# Altium footprint library Res and Cap.PcbLib: 7 footprints
Each footprint in its own frame and in the unit in brackets; x right, y up, seen from the top. Pads: shape width x height; smd on the part's side, far side on the other; paste and mask are expansions set on the pad; w line width, h text height; cw(c..) or ccw(c..) is an arc to the next point about the centre after c.
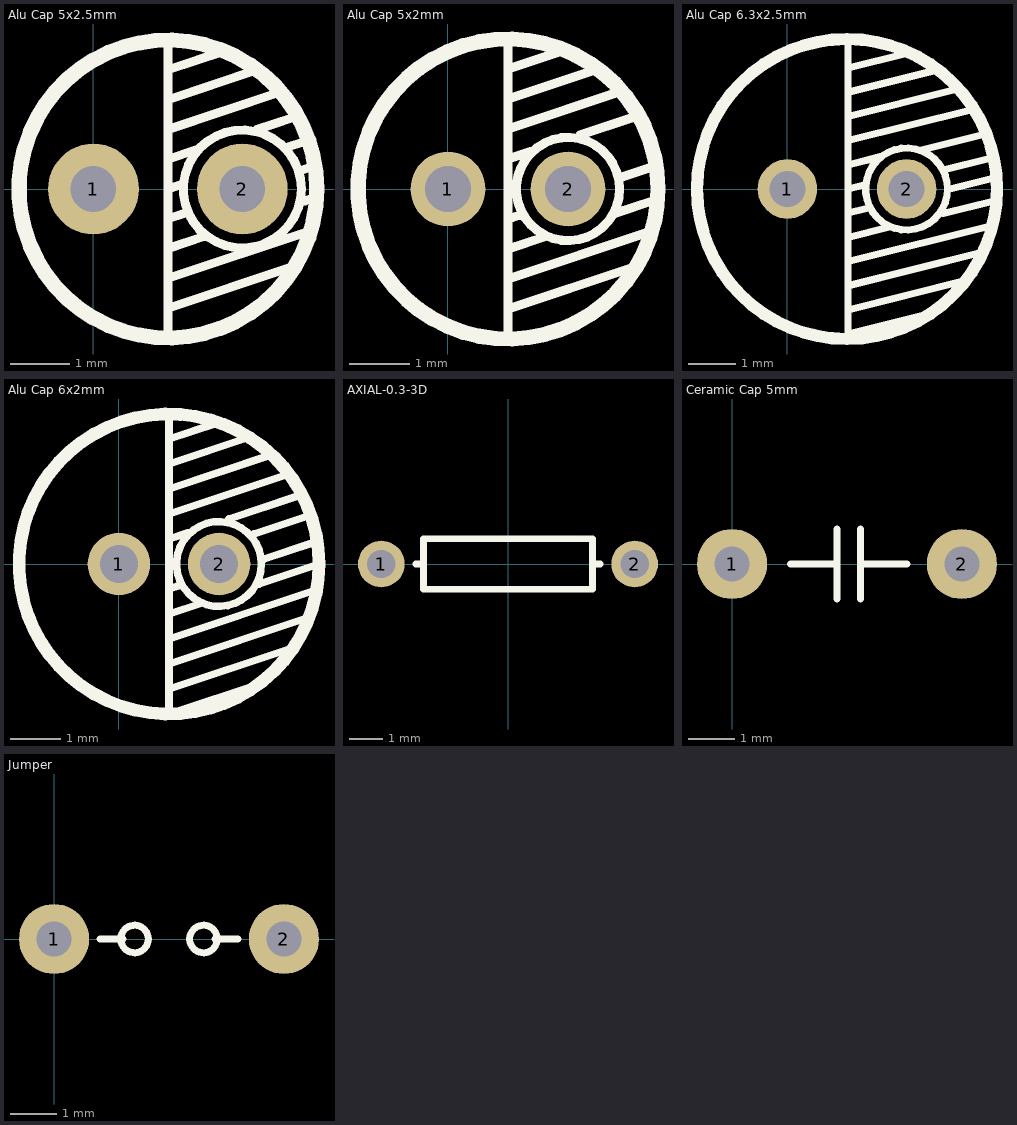
[diagram p0: the footprints below, top view; thin cyan lines are the x and y axes]

## Alu Cap 5x2.5mm [mil] "Cylindrical Cap, 5mm Can, 2mm Pitch"
height 196.85
pads (2):
  round 60 hole 30.12: 1(0,0) 2(98.43,0)
Top Overlay:
  circle w5.98: c98.43,0 r38.97
  circle w10: c49.21,0 r98.43
  lines w6: 49.21,-98.43 49.21,98.43 ; 49.21,-78.74 131.38,-51.35 ; 49.21,-59.06 142.59,-27.93 ; 49.21,-39.37 73.49,-31.28 ; 49.21,-19.68 60.42,-15.95 ; 49.21,0 58.55,3.11 ; 49.21,19.68 67.89,25.91 ; 49.21,39.37 123.91,64.27 ; 49.21,59.06 108.27,78.74 ; 49.21,78.74 86.56,91.19 ; 108.27,39.37 130.68,46.84 ; 127.95,27.56 139.16,31.29 ; 135.83,11.81 145.16,14.92 ; 139.76,-7.87 149.1,-4.76
3D body "cpol-v_p2-5_d6-5_h11-5.stp": height 453.15, standoff -131.89, extent -76.76,-131.88 179.32,123.79

## Alu Cap 5x2mm [mm] "Cylindrical Cap, 5mm Can, 2mm Pitch"
height 5
pads (2):
  round 1.25 hole 0.765: 1(0,0) 2(2,0)
Top Overlay:
  circle w0.254: c1,0 r2.5
  circle w0.152: c2,0 r0.86
  lines w0.152: 1,-2.5 1,2.5 ; 1,-2 3.087,-1.304 ; 1,-1.5 3.372,-0.709 ; 1,-1 1.617,-0.794 ; 1,-0.5 1.19,-0.437 ; 1,0.5 1.379,0.626 ; 1,1 2.897,1.632 ; 1,1.5 2.5,2 ; 1,2 1.949,2.316 ; 2.2,0.9 3.054,1.185 ; 2.8,-0.4 3.417,-0.194 ; 2.9,0.2 3.374,0.358
3D body "cpol-v_p2_d5-25_h11.stp": height 11.01, standoff -3.35, extent -1.625,-2.85 3.631,2.4

## Alu Cap 6.3x2.5mm [mm] "Cylindrical Cap, 6.3mm Can, 2.5mm Pitch"
height 12.5
pads (2):
  round 1.25 hole 0.765: 1(0,0) 2(2.5,0)
Top Overlay:
  circle w0.152: c2.5,0 r0.86
  circle w0.254: c1.25,0 r3.15
  lines w0.152: 1.27,-2.54 3.734,-1.924 ; 1.27,-2.032 4.104,-1.324 ; 1.27,-1.524 4.35,-0.754 ; 1.27,-1.016 2.143,-0.798 ; 1.27,-0.508 1.658,-0.411 ; 1.27,0 1.61,0.085 ; 1.27,0.508 1.949,0.678 ; 1.27,1.016 3.857,1.663 ; 1.27,1.524 3.488,2.078 ; 1.27,2.032 3.118,2.494 ; 1.27,2.54 2.502,2.848 ; 1.27,3.048 1.27,-3.048 3.118,-2.586 ; 2.77,0.808 4.031,1.123 ; 3.27,-0.516 4.337,-0.249 ; 3.27,0.4 4.24,0.643 ; 3.37,-0.008 4.34,0.235
3D body "cpol-v_p2-5_d6-5_h11-5.stp": height 11.51, standoff -3.35, extent -1.95,-3.447 4.555,3.047

## Alu Cap 6x2mm [mm] "Cylindrical Cap, 6mm Can, 2mm Pitch"
height 5
pads (2):
  round 1.25 hole 0.765: 1(0,0) 2(2,0)
Top Overlay:
  circle w0.152: c2,0 r0.849
  circle w0.254: c1,0 r3
  lines w0.152: 1,-2.5 3.467,-1.678 ; 1,-2 3.846,-1.051 ; 1,-1.5 3.846,-0.551 ; 1,-1 1.664,-0.779 ; 1,-0.5 1.19,-0.437 ; 1,0.5 1.379,0.626 ; 1,1 3.372,1.791 ; 1,1.5 2.992,2.164 ; 1,2 2.613,2.538 ; 1,2.5 1.949,2.816 ; 1,3 1,-3 2.897,-2.368 ; 2.2,0.9 3.528,1.343 ; 2.7,0.6 3.838,0.979 ; 2.8,-0.4 3.938,-0.021 ; 2.9,0.1 3.849,0.416
3D body "cpol-v_p2_d5-25_h11.stp": height 11.01, standoff -3.35, extent -1.625,-2.825 3.631,2.425

## AXIAL-0.3-3D [mm] "Axial Device, Thru-Hole; 2 Leads; 0.3 in Pin Spacing"
height 1.524
pads (2):
  round 1.4 hole 0.85: 1(-3.81,0) 2(3.81,0)
Top Overlay:
  lines w0.2: -2.769,0 -2.54,0 ; 2.769,0 2.54,0 ; 2.54,0 2.54,-0.762 -2.54,-0.762 -2.54,0.762 2.54,0.762 2.54,0
3D body "resistor.SLDPRT": height 2.13, standoff -3.55, extent -4.354,-1.013 4.355,1.046

## Ceramic Cap 5mm [mil] "Cermaic Cap 5mm pitch"
height 196.85
pads (2):
  round 60 hole 30.12: 1(0,0) 2(196.85,0)
Top Overlay:
  lines w6: 50,0 90,0 ; 90,-30 90,30 ; 110,-30 110,30 ; 110,0 150,0
3D body "cdisk_p5x1_d7-5_th3.stp": height 374.01, standoff -157.48, extent -53.86,-91.11 259.52,85.81

## Jumper [mil] "Cermaic Cap 5mm pitch"
height 196.85
pads (2):
  round 60 hole 30.12: 1(0,0) 2(196.85,0)
Top Overlay:
  circle w5.98: c68.9,0 r11.81
  circle w5.98: c127.95,0 r11.81
  lines w6: 39.37,0 59.06,0 ; 137.8,0 157.48,0